# Altium integrated library SN74HCT541PWR.IntLib: 1 symbol
Pins are listed as number, name and electrical type; pins without a type are passive.

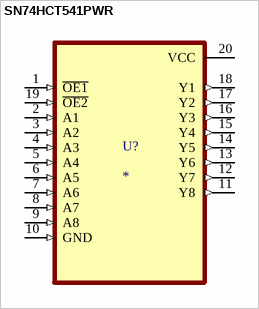
[diagram p0: symbol SN74HCT541PWR]

## SN74HCT541PWR
designator U?
MP: SN74HCT541PWR; Package: None; Price: None; Value: *; Availability: Unavailable
footprint SOP65P640X120-20N
pins: 1 ~{OE1} (in), 2 A1 (in), 3 A2 (in), 4 A3 (in), 5 A4 (in), 6 A5 (in), 7 A6 (in), 8 A7 (in), 9 A8 (in), 10 GND (in), 11 Y8 (out), 12 Y7 (out), 13 Y6 (out), 14 Y5 (out), 15 Y4 (out), 16 Y3 (out), 17 Y2 (out), 18 Y1 (out), 19 ~{OE2} (in), 20 VCC (power)